# Altium footprint library Protection.PcbLib: 2 footprints
Each footprint in its own frame and in the unit in brackets; x right, y up, seen from the top. Pads: shape width x height; smd on the part's side, far side on the other; paste and mask are expansions set on the pad; w line width, h text height; cw(c..) or ccw(c..) is an arc to the next point about the centre after c.
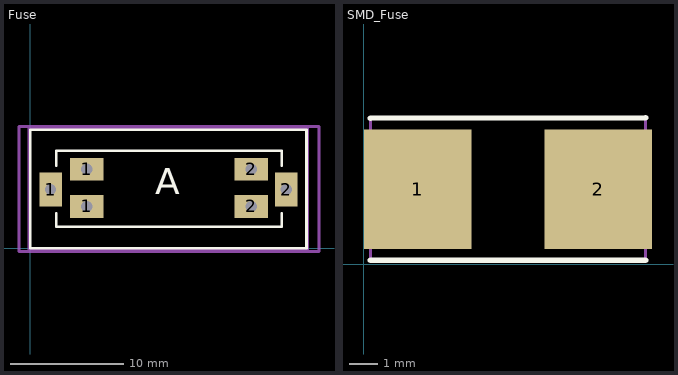
[diagram p0: the footprints below, top view; thin cyan lines are the x and y axes]

## Fuse [mm]
pads (6):
  rect 2x3 hole 1 square paste-2539.97 mask+0: 1(1.8,5.2) 2(22.7,5.2)
  rect 3x2 hole 1 square paste-2539.97 mask+0: 1(5,3.7) 1(5,7) 2(19.6,3.7) 2(19.6,7)
Top Overlay:
  lines w0.2: 2.3,3.1 2.3,1.9 22.3,1.9 22.3,3.1 ; 2.3,7.3 2.3,8.65 22.3,8.65 22.3,7.3
  lines w0.254: 0,0 24.5,0 24.5,10.5 0,10.5 0,0
  text "A" at 11.1,4 h4
Mechanical 1:
  lines w0.254: -0.1,-0.1 24.6,-0.1 24.6,10.6 -0.1,10.6 -0.1,-0.1
Top Courtyard:
  lines w0.254: -1,-0.3 25.6,-0.3 25.6,10.8 -1,10.8 -1,-0.3
3D body "KLS5-1096.stp": height 11.2, standoff -5, extent 0.121,0.375 24.621,10.075

## SMD_Fuse [mm]
pads (2):
  rect 3.81x4.24 smd: 1(1.908,2.654) 2(8.288,2.654)
Top Overlay:
  lines w0.2: 0.233,0.139 9.963,0.139 ; 0.233,5.169 9.963,5.194
Mechanical 15:
  lines w0.1: 0.233,0.139 9.963,0.139 9.963,5.169 0.233,5.169 0.233,0.139
3D body "FUSE_SMD.stp": height 3.89, standoff 0.08, extent 0.233,0.114 9.963,5.144